# Altium footprint library PCB - LEADED - TO252-11.PCBLIB: 1 footprints
Each footprint in its own frame and in the unit in brackets; x right, y up, seen from the top. Pads: shape width x height; smd on the part's side, far side on the other; paste and mask are expansions set on the pad; w line width, h text height; cw(c..) or ccw(c..) is an arc to the next point about the centre after c.
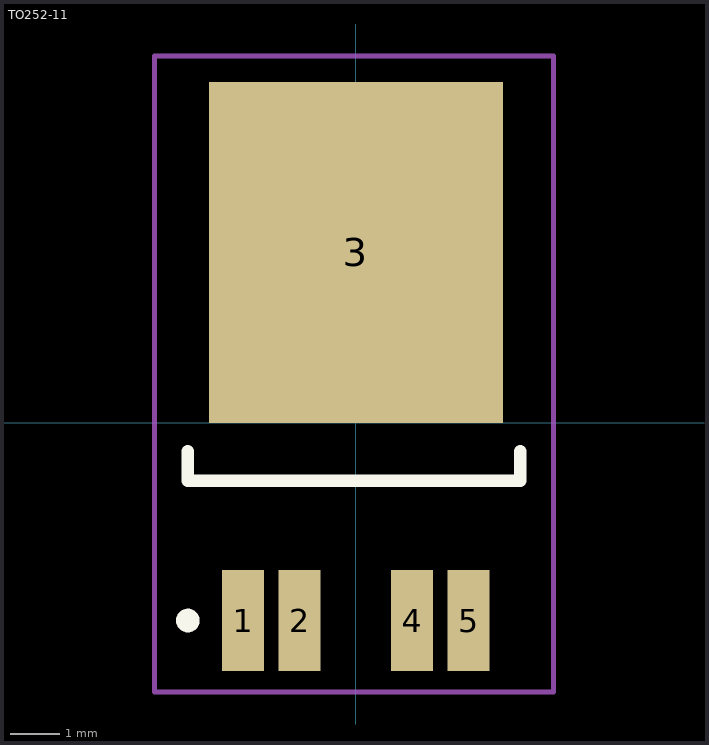
[diagram p0: the footprint, top view; thin cyan lines are the x and y axes]

## TO252-11 [mm] "Infineon"
pads (5):
  rect 0.85x2.05 smd: 1(-2.28,-4) 2(-1.14,-4) 4(1.14,-4) 5(2.28,-4)
  rect 5.95x6.9 smd: 3(0,3.45)
Top Overlay:
  circle w0.254: c-3.4,-4 r0.112
  lines w0.254: -3.4,-0.575 -3.4,-1.175 3.325,-1.175 3.325,-0.575
Mechanical 15:
  lines w0.1: -4.075,-5.45 -4.075,-5.125 -4.075,7.425 4,7.425 4,-5.45 -4.075,-5.45
3D body: height 2.35, standoff 0, extent -3.4,-1.175 3.325,5.225